# Altium schematic symbol library RELAY.SchLib: 1 symbol
Pins are listed as number, name and electrical type; pins without a type are passive.

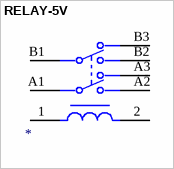
[diagram p0: symbol RELAY-5V]

## RELAY-5V
designator ?
R2G2CH005
footprint RELAY-5V
pins: 1 A1, 2 A2, A1 11, A2 14, A3 12, B1 21, B2 24, B3 22